# EAGLE library part MCZ33996EK (library MCZ33996EK)
NXP - MCZ33996EK - LOAD SWITCH, 16 O/P, 24 BIT SPI, 32WSOIC Source: Datasheet <http://www.nxp.com/docs/en/data-sheet/MC33996.pdf>
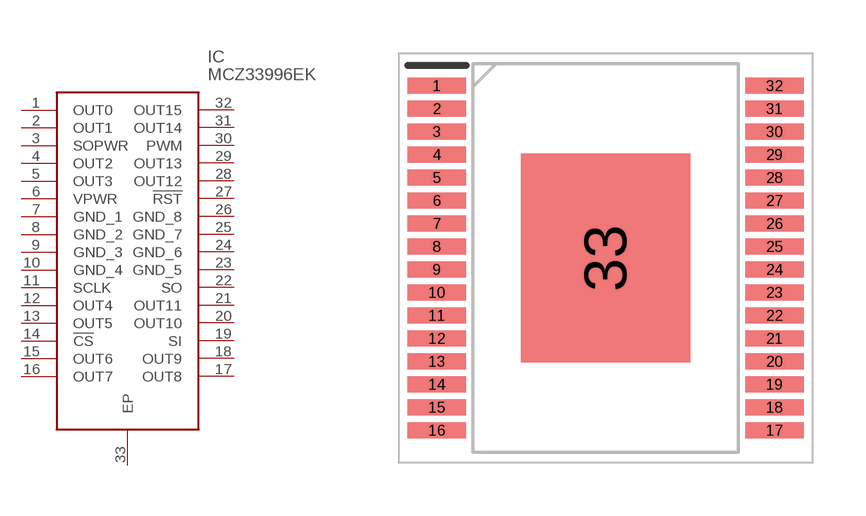
[diagram p0: symbol with the pads of SOP65P1030X265-33N; footprint SOP65P1030X265-33N]

Designator prefix IC

## MCZ33996EK (Description: NXP - MCZ33996EK - LOAD SWITCH, 16 O/P, 24 BIT SPI, 32WSOIC; Height: 2.65mm; Manufacturer_Name: NXP; Manufacturer_Part_Number: MCZ33996EK; Mouser_Part_Number: 841-MCZ33996EK; Mouser_Price-Stock: https://www.mouser.co.uk/ProductDetail/NXP-Semiconductors/MCZ33996EK?qs=YvTEJ%2FLhu6WGqZqm9W%252Bwzw%3D%3D)  [SOP65P1030X265-33N]
1  OUT0
2  OUT1
3  SOPWR
4  OUT2
5  OUT3
6  VPWR
7  GND_1
8  GND_2
9  GND_3
10  GND_4
11  SCLK
12  OUT4
13  OUT5
14  !CS
15  OUT6
16  OUT7
17  OUT8
18  OUT9
19  SI
20  OUT10
21  OUT11
22  SO
23  GND_5
24  GND_6
25  GND_7
26  GND_8
27  !RST
28  OUT12
29  OUT13
30  PWM
31  OUT14
32  OUT15
33  EP

## Footprint SOP65P1030X265-33N (pad centres in mm)
32LD SOIC W/B 98ARL10543D
smd 1.65 x 0.45: 1 -4.775,4.875; 2 -4.775,4.225; 3 -4.775,3.575; 4 -4.775,2.925; 5 -4.775,2.275; 6 -4.775,1.625; 7 -4.775,0.975; 8 -4.775,0.325; 9 -4.775,-0.325; 10 -4.775,-0.975; 11 -4.775,-1.625; 12 -4.775,-2.275; 13 -4.775,-2.925; 14 -4.775,-3.575; 15 -4.775,-4.225; 16 -4.775,-4.875; 17 4.775,-4.875; 18 4.775,-4.225; 19 4.775,-3.575; 20 4.775,-2.925; 21 4.775,-2.275; 22 4.775,-1.625; 23 4.775,-0.975; 24 4.775,-0.325; 25 4.775,0.325; 26 4.775,0.975; 27 4.775,1.625; 28 4.775,2.275; 29 4.775,2.925; 30 4.775,3.575; 31 4.775,4.225; 32 4.775,4.875
smd 4.8 x 5.9: 33 0,0